# EAGLE library part RFM69CW (library kanflo)
HopeRFs RFM69CW with all digital IOs available.
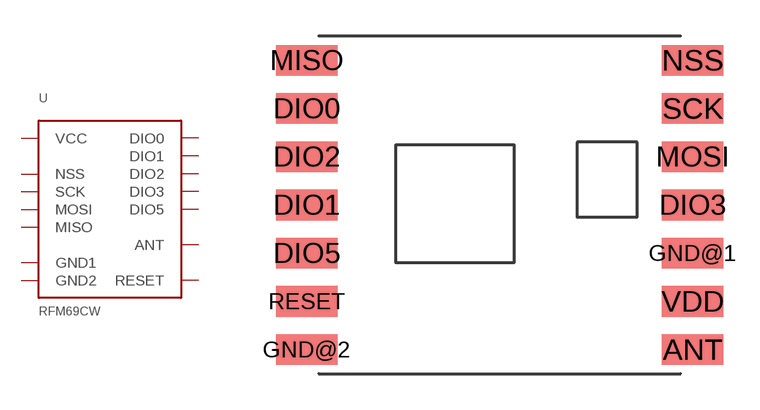
[diagram p0: symbol with the pads of RFM69CW; footprint RFM69CW]

Designator prefix U

## RFM69CW  [RFM69CW]
ANT  ANT  pas
DIO0  DIO0  oc
DIO1  DIO1
DIO2  DIO2
DIO3  DIO3
DIO5  DIO5
GND@1  GND1  pwr
GND@2  GND2  pwr
MISO  MISO  out
MOSI  MOSI  in
NSS  NSS  in
RESET  RESET
SCK  SCK  in
VDD  VCC  pwr

## Footprint RFM69CW (pad centres in mm)
RFM69CW radio module by HopeRF
smd 2.54 x 1.27: ANT 8,-6; DIO0 -8,4; DIO1 -8,0; DIO2 -8,2; DIO3 8,0; DIO5 -8,-2; GND@1 8,-2; GND@2 -8,-6; MISO -8,6; MOSI 8,2; NSS 8,6; RESET -8,-4; SCK 8,4; VDD 8,-4